# EAGLE library part TCS3200_MODULE (library tcs3200)
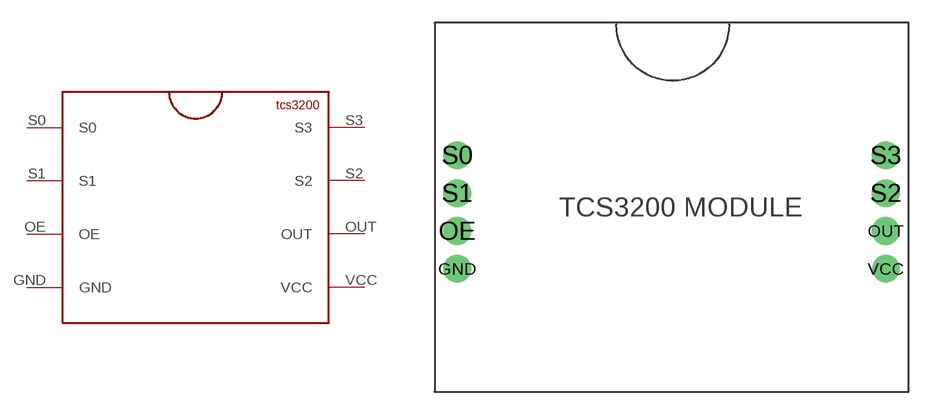
[diagram p0: symbol with the pads of TCS3200; footprint TCS3200]

Designator prefix -

## TCS3200_MODULETCS3200  [TCS3200]
GND  GND
OE  OE
OUT  OUT
S0  S0
S1  S1
S2  S2
S3  S3
VCC  VCC

## Footprint TCS3200 (pad centres in mm)
drill 0.8 pad 1.8: GND 1.48,8.04; OE 1.48,10.52; OUT 29.48,10.52; S0 1.48,15.48; S1 1.48,13; S2 29.48,13; S3 29.48,15.48; VCC 29.49,8.04